# EAGLE library part LM3248?* (library LM3248)
LM3248 boost+buck controller in 30BGA (5x6/0.4) • Vin = 2.7-5.5v • Imax = 2.5A Variants: LM3248TME: 250 per reel LM3248TMX: 3000 per reel
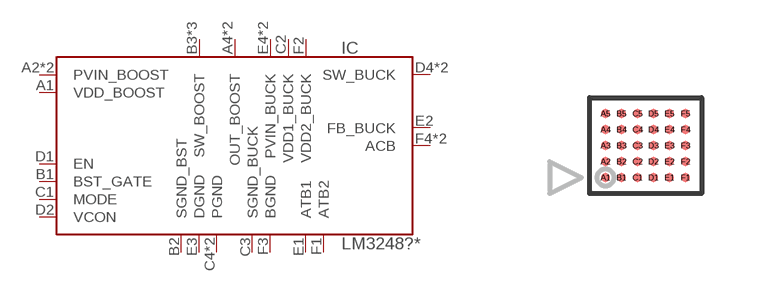
[diagram p0: symbol with the pads of DSBGA-5X6-0.4; footprint DSBGA-5X6-0.4]

Designator prefix IC

## LM3248TME (MARK: 3248; MF: Texas Instruments; MPN: LM3248TME/NOPB), LM3248TMX (MARK: 3248; MF: Texas Instruments; MPN: LM3248TMX/NOPB)  [DSBGA-5X6-0.4]
A1  VDD_BOOST  in
A2  PVIN_BOOST  in
A3  PVIN_BOOST  in
A4  OUT_BOOST  out
A5  OUT_BOOST  out
B1  BST_GATE  in
B2  SGND_BST  pwr
B3  SW_BOOST
B4  SW_BOOST
B5  SW_BOOST
C1  MODE  in
C2  VDD1_BUCK  in
C3  SGND_BUCK  pwr
C4  PGND  pwr
C5  PGND  pwr
D1  EN  in
D2  VCON  in
D4  SW_BUCK  out
D5  SW_BUCK  out
E1  ATB1  in
E2  FB_BUCK  in
E3  DGND  pwr
E4  PVIN_BUCK  in
E5  PVIN_BUCK  in
F1  ATB2  in
F2  VDD2_BUCK  in
F3  BGND  pwr
F4  ACB  in
F5  ACB  in

## Footprint DSBGA-5X6-0.4 (pad centres in mm)
smd 0.225 x 0.225: A1 -1,-0.8; A2 -1,-0.4; A3 -1,0; A4 -1,0.4; A5 -1,0.8; B1 -0.6,-0.8; B2 -0.6,-0.4; B3 -0.6,0; B4 -0.6,0.4; B5 -0.6,0.8; C1 -0.2,-0.8; C2 -0.2,-0.4; C3 -0.2,0; C4 -0.2,0.4; C5 -0.2,0.8; D1 0.2,-0.8; D2 0.2,-0.4; D3 0.2,0; D4 0.2,0.4; D5 0.2,0.8; E1 0.6,-0.8; E2 0.6,-0.4; E3 0.6,0; E4 0.6,0.4; E5 0.6,0.8; F1 1,-0.8; F2 1,-0.4; F3 1,0; F4 1,0.4; F5 1,0.8